# Altium integrated library SMA-J-P-X-RA-TH1.IntLib: 1 symbol
Pins are listed as number, name and electrical type; pins without a type are passive.

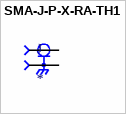
[diagram p0: symbol SMA-J-P-X-RA-TH1]

## SMA-J-P-X-RA-TH1
designator J
SMA Connector Jack, Female Socket 50Ohm Through Hole, Right Angle Solder; MP: SMA-J-P-H-RA-TH1; MF: Samtec; Package: None; SnapEDA_Link: https://www.snapeda.com/parts/SMA-J-P-H-RA-TH1/Samtec%20Inc./view-part/134498/?ref=snap; Value: *; Toby_UK-Purchase-URL: https://snapeda.com/shop?store=Toby+UK&id=134498; Digi-Key_Part_Number: SAM8856-ND
footprint SAMTEC_SMA-J-P-X-RA-TH1
pins: 1, 2, 3 2, 4 2, 5 2